# Altium schematic symbol library RF_Transceiver_LimeMicro_LMS6002D.SchLib: 1 symbol
Pins are listed as number, name and electrical type; pins without a type are passive.

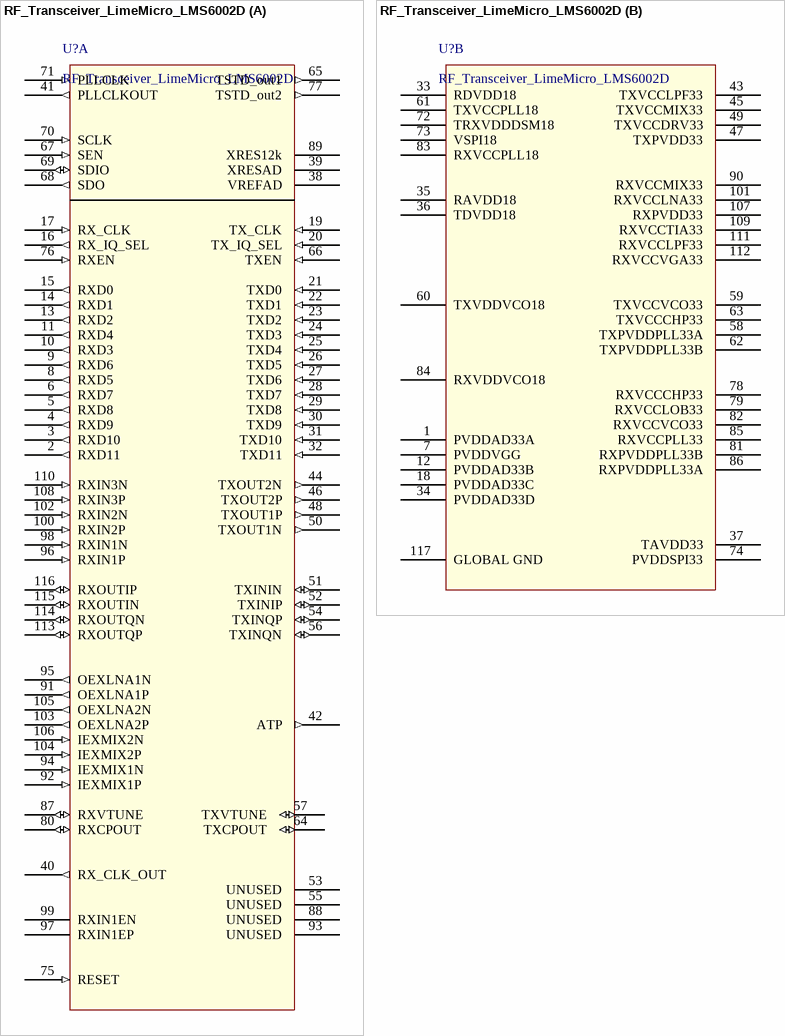
[diagram p0: symbol RF_Transceiver_LimeMicro_LMS6002D]

## RF_Transceiver_LimeMicro_LMS6002D
designator U?
part A pins: 2 RXD11  (out), 3 RXD10  (out), 4 RXD9  (out), 5 RXD8  (out), 6 RXD7  (out), 8 RXD5  (out), 9 RXD6  (out), 10 RXD3  (out), 11 RXD4  (out), 13 RXD2  (out), 14 RXD1  (out), 15 RXD0  (out), 16 RX_IQ_SEL  (out), 17 RX_CLK  (in), 19 TX_CLK  (in), 20 TX_IQ_SEL  (in), 21 TXD0  (in), 22 TXD1  (in), 23 TXD2  (in), 24 TXD3  (in), 25 TXD4  (in), 26 TXD5  (in), 27 TXD6  (in), 28 TXD7  (in), 29 TXD8  (in), 30 TXD9  (in), 31 TXD10  (in), 32 TXD11  (in), 38 VREFAD , 39 XRESAD , 40 RX_CLK_OUT  (out), 41 PLLCLKOUT  (out), 42 ATP  (out), 44 TXOUT2N  (out), 46 TXOUT2P  (out), 48 TXOUT1P  (out), 50 TXOUT1N  (out), 51 TXININ  (io), 52 TXINIP  (io), 53 UNUSED  (power), 54 TXINQP  (io), 55 UNUSED  (power), 56 TXINQN  (io), 57 TXVTUNE  (io), 64 TXCPOUT  (io), 65 TSTD_out1  (out), 66 TXEN  (in), 67 SEN  (in), 68 SDO  (out), 69 SDIO  (io), 70 SCLK  (in), 71 PLLCLK  (in), 75 RESET  (in), 76 RXEN  (in), 77 TSTD_out2  (out), 80 RXCPOUT  (io), 87 RXVTUNE  (io), 88 UNUSED  (power), 89 XRES12k , 91 OEXLNA1P  (out), 92 IEXMIX1P  (in), 93 UNUSED  (power), 94 IEXMIX1N  (in), 95 OEXLNA1N  (out), 96 RXIN1P  (in), 97 RXIN1EP , 98 RXIN1N  (in), 99 RXIN1EN , 100 RXIN2P  (in), 102 RXIN2N  (in), 103 OEXLNA2P  (out), 104 IEXMIX2P  (in), 105 OEXLNA2N  (out), 106 IEXMIX2N  (in), 108 RXIN3P  (in), 110 RXIN3N  (in), 113 RXOUTQP  (io), 114 RXOUTQN  (io), 115 RXOUTIN  (io), 116 RXOUTIP  (io)
part B pins: 1 PVDDAD33A  (power), 7 PVDDVGG  (power), 12 PVDDAD33B  (power), 18 PVDDAD33C  (power), 33 RDVDD18  (power), 34 PVDDAD33D  (power), 35 RAVDD18  (power), 36 TDVDD18  (power), 37 TAVDD33  (power), 43 TXVCCLPF33  (power), 45 TXVCCMIX33  (power), 47 TXPVDD33  (power), 49 TXVCCDRV33  (power), 58 TXPVDDPLL33A  (power), 59 TXVCCVCO33  (power), 60 TXVDDVCO18  (power), 61 TXVCCPLL18  (power), 62 TXPVDDPLL33B  (power), 63 TXVCCCHP33  (power), 72 TRXVDDDSM18  (power), 73 VSPI18  (power), 74 PVDDSPI33  (power), 78 RXVCCCHP33  (power), 79 RXVCCLOB33  (power), 81 RXPVDDPLL33B  (power), 82 RXVCCVCO33  (power), 83 RXVCCPLL18  (power), 84 RXVDDVCO18  (power), 85 RXVCCPLL33  (power), 86 RXPVDDPLL33A  (power), 90 RXVCCMIX33  (power), 101 RXVCCLNA33  (power), 107 RXPVDD33  (power), 109 RXVCCTIA33  (power), 111 RXVCCLPF33  (power), 112 RXVCCVGA33  (power), 117 GLOBAL GND  (power)